# Altium schematic symbol library Logic.SchLib: 6 symbols
Pins are listed as number, name and electrical type; pins without a type are passive.

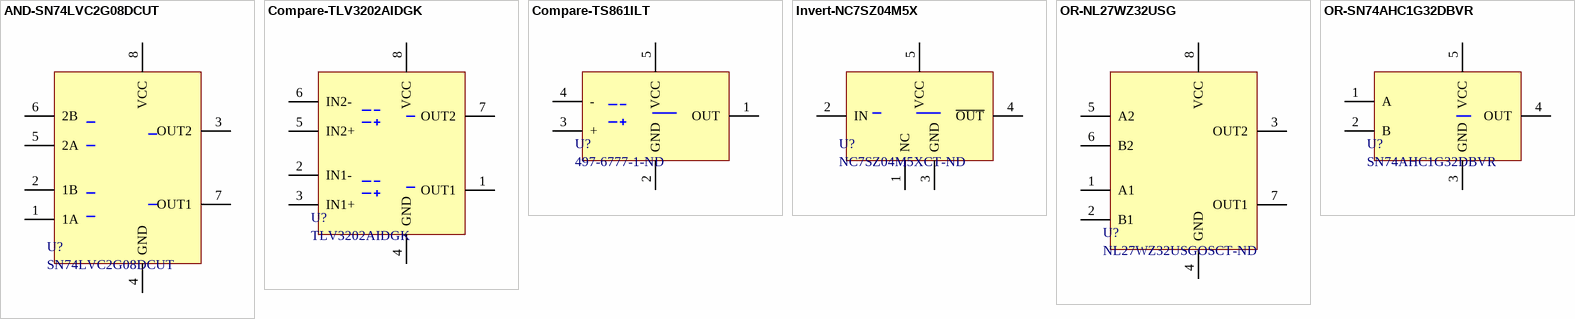
[diagram p0: symbols AND-SN74LVC2G08DCUT to OR-SN74AHC1G32DBVR]

## AND-SN74LVC2G08DCUT
designator U?, comment SN74LVC2G08DCUT
IC GATE AND 2CH 2-INP US8; Manufacturer: Texas Instruments; Output Current: 32mA; Number of Inputs: 2; Min Supply Voltage: 1.65V; Max Supply Voltage: 5.5V; Number of Outputs: 1; Propagation Delay: 3.8ns; Quiescent Current: 10uA; High Level Output Current: -32mA; Supplier 1: Digi-Key; Manufacturer Part Number: SN74LVC2G08DCUT; Stock 1: 1703; Pricing 1: 1=0.86, 10=0.767, 25=0.728, 100=0.598 (USD); Mount: Surface Mount; Case/Package: VSSOP; Number of Pins: 8; Weight: 0.000339oz; Contact Plating: Gold; Min Operating Temperature: -40°C; Max Operating Temperature: 125°C; Max Output Current: 32mA; Packaging: Tape and Reel; Logic Function: AND; Package Quantity: 1; Number of Gates: 2; Number of Input Lines: 2; Number of Output Lines: 1; Low Level Output Current: 32mA; Number of Circuits: 2; Number of Elements: 2; Turn-On Delay Time: 3.8ns; Termination: SMD/SMT; Number of Bits: 2; Radiation Hardening: No; REACH SVHC: No SVHC; Lead Free: Lead Free; ComponentLink1URL: http://focus.ti.com/lit/ds/symlink/sn74lvc2g08.pdf?src-supplier=Element14; ComponentLink1Description: http://focus.ti.com/lit/ds/symlink/sn74lvc2g08.pdf?src-supplier=Element14; ComponentLink2URL: http://focus.ti.com/lit/ds/symlink/sn74lvc2g08.pdf?src-supplier=Avnet; ComponentLink2Description: http://focus.ti.com/lit/ds/symlink/sn74lvc2g08.pdf?src-supplier=Avnet; ComponentLink3URL: http://www.ti.com/general/docs/lit/getliterature.tsp?genericPartNumber=SN74LVC2G08&&fileType=pdf&src-supplier=Avnet; ComponentLink3Description: http://www.ti.com/general/docs/lit/getliterature.tsp?genericPartNumber=SN74LVC2G08&&fileType=pdf&src-supplier=Avnet; ComponentLink4URL: https://www.verical.com/server-webapp/html/getDatasheet?partID=48823&src-supplier=Verical; ComponentLink4Description: https://www.verical.com/server-webapp/html/getDatasheet?partID=48823&src-supplier=Verical; ComponentLink5URL: http://www.farnell.com/datasheets/1834894.pdf?src-supplier=Element14; ComponentLink5Description: http://www.farnell.com/datasheets/1834894.pdf?src-supplier=Element14; ComponentLink6URL: http://www.ti.com/lit/ds/symlink/sn74lvc2g08.pdf?src-supplier=Digi-Key; ComponentLink6Description: http://www.ti.com/lit/ds/symlink/sn74lvc2g08.pdf?src-supplier=Digi-Key; ComponentLink7URL: http://www.produktinfo.conrad.com/datenblaetter/1000000-1099999/001017175-da-01-en-IC_DU_2IN_PO_SN74LVC2G08DCUT_VSSOP_8_TID.pdf?src-supplier=Conrad; ComponentLink7Description: http://www.produktinfo.conrad.com/datenblaetter/1000000-1099999/001017175-da-01-en-IC_DU_2IN_PO_SN74LVC2G08DCUT_VSSOP_8_TID.pdf?src-supplier=Conrad; Supplier Part Number 1: 296-26615-1-ND
footprint 8VSSOP (TSSOP, 8-Leads, Body 2.00x2.30mm, Pitch 0.50mm, IPC Medium Density)
pins: 1 1A, 2 1B, 3 OUT2, 4 GND, 5 2A, 6 2B, 7 OUT1, 8 VCC

## Compare-TLV3202AIDGK
designator U?, comment TLV3202AIDGK
IC COMPAR PWR RRI DL PP 8VSSOP; Manufacturer: Texas Instruments; Number of Elements: 2; Propagation Delay: 50ns; Min Supply Voltage: 2.7V; Max Supply Voltage: 5.5V; Common Mode Rejection Ratio: 70dB; Nominal Supply Current: 50uA; Max Supply Current: 40uA; Input Bias Current: 50pA; Input Offset Voltage (Vos): 5mV; Response Time: 0.047us; Hysteresis: 1.2mV; Power Supply Rejection Ratio (PSRR): 85dB; Manufacturer Part Number: TLV3202AIDGK; Stock 1: 6035; Pricing 1: 1=1.77, 10=1.59, 25=1.5, 100=1.2, 250=1.05, 500=1.02, 1000=0.81, 2500=0.78, 5000=0.75 (USD); Mount: Surface Mount; Case/Package: VSSOP; Number of Pins: 8; Min Operating Temperature: -40°C; Max Operating Temperature: 125°C; Packaging: Rail/Tube; Package Quantity: 80; Number of Channels: 2; Max Input Current: 50pA; Quiescent Current: 50uA; Type: General Purpose; Length: 3.1mm; Height: 0.95mm; Width: 3.1mm; Radiation Hardening: No; REACH SVHC: No SVHC; Lead Free: Lead Free; ComponentLink1URL: http://www.ti.com/lit/gpn/tlv3202?src-supplier=Mouser; ComponentLink1Description: http://www.ti.com/lit/gpn/tlv3202?src-supplier=Mouser; ComponentLink2URL: http://www.farnell.com/datasheets/1882110.pdf?src-supplier=Element14; ComponentLink2Description: http://www.farnell.com/datasheets/1882110.pdf?src-supplier=Element14; Supplier Part Number 1: 296-34992-ND; Supplier 1: Digi-Key
pins: 1 OUT1, 2 IN1-, 3 IN1+, 4 GND, 5 IN2+, 6 IN2-, 7 OUT2, 8 VCC

## Compare-TS861ILT
designator U?, comment 497-6777-1-ND
IC COMPARATOR R-R MCRPWR SOT23-5; Manufacturer: STMicroelectronics; Manufacturer Part Number: TS861ILT; Voltage Gain: 240dB; Min Supply Voltage: 2.7V; Max Supply Voltage: 10V; Number of Channels: 1; Max Power Dissipation: 500mW; Nominal Supply Current: 14uA; Common Mode Rejection Ratio: 70dB; Input Offset Voltage (Vos): 15mV; Input Bias Current: 300pA; Quiescent Current: 16uA; Propagation Delay: 2us; Max Supply Current: 12uA; Output Current per Channel: 5mA; Response Time: 500ns; Power Supply Rejection Ratio (PSRR): 80dB; Supplier 1: Digi-Key; Stock 1: 14868; Pricing 1: 1=0.78, 10=0.682, 25=0.6412, 100=0.486, 250=0.4136, 500=0.39292, 1000=0.29986 (USD); Mount: Surface Mount; Case/Package: SOT-23; Number of Pins: 5; Min Operating Temperature: -40°C; Max Operating Temperature: 85°C; Package Quantity: 3000; Number of Elements: 1; Packaging: Tape and Reel; Max Input Current: 300pA; Power Dissipation: 500mW; Output Current: 5mA; Type: General Purpose; Radiation Hardening: No; REACH SVHC: No SVHC; Lead Free: Lead Free; ComponentLink1URL: http://www.farnell.com/datasheets/1690531.pdf?src-supplier=Element14; ComponentLink1Description: http://www.farnell.com/datasheets/1690531.pdf?src-supplier=Element14; ComponentLink2URL: http://www.st.com/content/ccc/resource/technical/document/datasheet/dd/d1/7d/d5/d5/ce/49/c5/CD00001705.pdf/files/CD00001705.pdf/jcr:content/translations/en.CD00001705.pdf?src-supplier=Digi-Key; ComponentLink2Description: http://www.st.com/content/ccc/resource/technical/document/datasheet/dd/d1/7d/d5/d5/ce/49/c5/CD00001705.pdf/files/CD00001705.pdf/jcr:content/translations/en.CD00001705.pdf?src-supplier=Digi-Key; ComponentLink3URL: http://www.mouser.com/ds/2/389/ts861-957384.pdf?src-supplier=Mouser; ComponentLink3Description: http://www.mouser.com/ds/2/389/ts861-957384.pdf?src-supplier=Mouser; ComponentLink4URL: https://www.verical.com/server-webapp/html/getDatasheet?partID=160028&src-supplier=Verical; ComponentLink4Description: https://www.verical.com/server-webapp/html/getDatasheet?partID=160028&src-supplier=Verical; ComponentLink5URL: http://www.produktinfo.conrad.com/datenblaetter/1100000-1199999/001185659-da-01-en-IC_COMPARATOR_R_R_TS861ILT_SOT_23_5_STM.pdf?src-supplier=Conrad; ComponentLink5Description: http://www.produktinfo.conrad.com/datenblaetter/1100000-1199999/001185659-da-01-en-IC_COMPARATOR_R_R_TS861ILT_SOT_23_5_STM.pdf?src-supplier=Conrad; Supplier Part Number 1: 497-6777-6-ND
footprint SOT-23-5 (SOT23, 5-Leads, Body 3.00x2.75mm, Pitch 0.95mm, IPC Medium Density)
pins: 1 OUT, 2 GND, 3 +, 4 -, 5 VCC

## Invert-NC7SZ04M5X
designator U?, comment NC7SZ04M5XCT-ND
IC INVERTER 1CH 1-INP SOT23-5; Manufacturer: ON Semiconductor / Fairchild; Propagation Delay: 12ns; Max Supply Voltage: 5.5V; Min Supply Voltage: 1.65V; Number of Inputs: 1; Output Current: 32mA; Logic Function: Buffer,Inverter; Quiescent Current: 2uA; High Level Output Current: -32mA; Supplier 1: Digi-Key; Manufacturer Part Number: NC7SZ04M5X; Stock 1: 104504; Pricing 1: 1=0.47, 10=0.348, 25=0.3044, 100=0.1971, 250=0.16312, 500=0.1305, 1000=0.10005 (USD); Mount: Surface Mount; Case/Package: SOT-23; Number of Pins: 5; Weight: 0.03g; Contact Plating: Tin,Matte; Min Operating Temperature: -40°C; Max Operating Temperature: 85°C; Packaging: Tape and Reel; Package Quantity: 1; Number of Elements: 1; Number of Circuits: 1; Low Level Output Current: 32mA; Turn-On Delay Time: 12ns; Radiation Hardening: No; REACH SVHC: No SVHC; Lead Free: Lead Free; ComponentLink1URL: http://www.jameco.com/Jameco/Products/ProdDS/1015511.pdf?src-supplier=Jameco; ComponentLink1Description: http://www.jameco.com/Jameco/Products/ProdDS/1015511.pdf?src-supplier=Jameco; ComponentLink2URL: https://www.fairchildsemi.com/datasheets/NC/NC7SZ04.pdf?src-supplier=Digi-Key; ComponentLink2Description: https://www.fairchildsemi.com/datasheets/NC/NC7SZ04.pdf?src-supplier=Digi-Key; ComponentLink3URL: http://www.farnell.com/datasheets/1639856.pdf?src-supplier=Element14; ComponentLink3Description: http://www.farnell.com/datasheets/1639856.pdf?src-supplier=Element14; ComponentLink4URL: http://www.fairchildsemi.com/ds/NC/NC7SZ04.pdf?src-supplier=Avnet+Europe; ComponentLink4Description: http://www.fairchildsemi.com/ds/NC/NC7SZ04.pdf?src-supplier=Avnet+Europe; ComponentLink5URL: https://www.verical.com/server-webapp/html/getDatasheet?partID=120911&src-supplier=Verical; ComponentLink5Description: https://www.verical.com/server-webapp/html/getDatasheet?partID=120911&src-supplier=Verical; ComponentLink6URL: https://www.fairchildsemi.com/datasheets/NC/NC7SZ04.pdf?src-supplier=Avnet; ComponentLink6Description: https://www.fairchildsemi.com/datasheets/NC/NC7SZ04.pdf?src-supplier=Avnet; ComponentLink7URL: http://www.fairchildsemi.com/ds/NC/NC7SZ04.pdf?src-supplier=Future+Electronics; ComponentLink7Description: http://www.fairchildsemi.com/ds/NC/NC7SZ04.pdf?src-supplier=Future+Electronics; Supplier Part Number 1: NC7SZ04M5XDKR-ND
footprint SOT-23-5 (SOT23, 5-Leads, Body 3.00x2.75mm, Pitch 0.95mm, IPC Medium Density)
pins: 1 NC, 2 IN, 3 GND, 4 ~{OUT}, 5 VCC

## OR-NL27WZ32USG
designator U?, comment NL27WZ32USGOSCT-ND
IC GATE OR 2CH 2-INP US8; Manufacturer: ON Semiconductor; Number of Gates: 2; Propagation Delay: 6.2ns; Max Supply Voltage: 5.5V; Min Supply Voltage: 1.65V; Number of Outputs: 1; Operating Supply Voltage: 3.25V; Output Current: 50mA; Low Level Output Current: 32mA; Quiescent Current: 1uA; High Level Output Current: -32mA; Turn-On Delay Time: 5.2ns; Schmitt Trigger Input: No; Supplier 1: Digi-Key; Manufacturer Part Number: NL27WZ32USG; Stock 1: 5621; Pricing 1: 1=0.39, 10=0.317, 25=0.29, 100=0.2157, 250=0.19548, 500=0.16176, 1000=0.12132 (USD); Mount: Surface Mount; Number of Pins: 8; Contact Plating: Tin,Matte; Min Operating Temperature: -40°C; Max Operating Temperature: 85°C; Packaging: Tape and Reel; Package Quantity: 1; Number of Inputs: 2; Logic Function: OR; Number of Circuits: 2; Number of Elements: 2; Length: 2.4mm; Height: 0.8mm; Width: 2.1mm; Radiation Hardening: No; REACH SVHC: No SVHC; Lead Free: Lead Free; Halogen Free: Halogen Free; ComponentLink1URL: http://www.mouser.com/ds/2/308/NL27WZ32-D-114831.pdf?src-supplier=Mouser; ComponentLink1Description: http://www.mouser.com/ds/2/308/NL27WZ32-D-114831.pdf?src-supplier=Mouser; ComponentLink2URL: http://www.onsemi.com/pub/Collateral/NL27WZ32-D.PDF?src-supplier=Digi-Key; ComponentLink2Description: http://www.onsemi.com/pub/Collateral/NL27WZ32-D.PDF?src-supplier=Digi-Key; ComponentLink3URL: https://www.verical.com/server-webapp/html/getDatasheet?partID=69948&src-supplier=Verical; ComponentLink3Description: https://www.verical.com/server-webapp/html/getDatasheet?partID=69948&src-supplier=Verical; ComponentLink4URL: http://www.onsemi.com/pub_link/Collateral/NL27WZ32-D.PDF?src-supplier=Future+Electronics; ComponentLink4Description: http://www.onsemi.com/pub_link/Collateral/NL27WZ32-D.PDF?src-supplier=Future+Electronics; ComponentLink5URL: http://www.onsemi.jp/pub/Collateral/NL27WZ32-D.PDF?src-supplier=Avnet+Europe; ComponentLink5Description: http://www.onsemi.jp/pub/Collateral/NL27WZ32-D.PDF?src-supplier=Avnet+Europe; ComponentLink6URL: http://www.onsemi.com/pub/Collateral/NL27WZ32-D.PDF?src-supplier=Avnet; ComponentLink6Description: http://www.onsemi.com/pub/Collateral/NL27WZ32-D.PDF?src-supplier=Avnet; ComponentLink7URL: http://datasheet.iiic.cc/on_semiconductor/NL27WZ32USG.pdf?src-supplier=IIIC; ComponentLink7Description: http://datasheet.iiic.cc/on_semiconductor/NL27WZ32USG.pdf?src-supplier=IIIC; Supplier Part Number 1: NL27WZ32USGOSDKR-ND
footprint US8 (TSSOP, 8-Leads, Body 2.00x2.30mm, Pitch 0.50mm, IPC Medium Density)
pins: 1 A1, 2 B1, 3 OUT2, 4 GND, 5 A2, 6 B2, 7 OUT1, 8 VCC

## OR-SN74AHC1G32DBVR
designator U?, comment SN74AHC1G32DBVR
IC GATE OR 1CH 2-INP SOT23-5; Manufacturer: Texas Instruments; Output Current: 8mA; Number of Inputs: 2; Min Supply Voltage: 2V; Max Supply Voltage: 5.5V; Number of Gates: 1; Propagation Delay: 7.5ns; Quiescent Current: 1uA; High Level Output Current: -8mA; Turn-On Delay Time: 11.4ns; Schmitt Trigger Input: No; Supplier 1: Digi-Key; Manufacturer Part Number: SN74AHC1G32DBVR; Stock 1: 16802; Pricing 1: 1=0.32, 10=0.258, 25=0.216, 100=0.1368, 250=0.1056, 500=0.09, 1000=0.0612 (USD); Mount: Surface Mount; Case/Package: SOT-23; Number of Pins: 5; Weight: 0.000557oz; Contact Plating: Tin,Matte; Min Operating Temperature: -40°C; Max Operating Temperature: 125°C; Max Output Current: 8mA; Package Quantity: 1; Packaging: Tape and Reel; Number of Outputs: 1; Logic Function: OR; Number of Elements: 1; Number of Circuits: 1; Low Level Output Current: 8mA; Number of Input Lines: 2; Number of Output Lines: 1; Termination: SMD/SMT; Number of Bits: 1; Length: 2.9mm; Height: 1.15mm; Width: 1.6mm; Radiation Hardening: No; REACH SVHC: No SVHC; Lead Free: Lead Free; ComponentLink1URL: http://www.ti.com/lit/ds/symlink/sn74ahc1g32.pdf?src-supplier=Digi-Key; ComponentLink1Description: http://www.ti.com/lit/ds/symlink/sn74ahc1g32.pdf?src-supplier=Digi-Key; ComponentLink2URL: http://www.jameco.com/Jameco/Products/ProdDS/913109.pdf?src-supplier=Jameco; ComponentLink2Description: http://www.jameco.com/Jameco/Products/ProdDS/913109.pdf?src-supplier=Jameco; ComponentLink3URL: http://www.ti.com/general/docs/lit/getliterature.tsp?genericPartNumber=SN74AHC1G32&&fileType=pdf&src-supplier=Avnet; ComponentLink3Description: http://www.ti.com/general/docs/lit/getliterature.tsp?genericPartNumber=SN74AHC1G32&&fileType=pdf&src-supplier=Avnet; ComponentLink4URL: https://www.verical.com/server-webapp/html/getDatasheet?partID=44427&src-supplier=Verical; ComponentLink4Description: https://www.verical.com/server-webapp/html/getDatasheet?partID=44427&src-supplier=Verical; ComponentLink5URL: http://www.farnell.com/datasheets/2024275.pdf?src-supplier=Element14; ComponentLink5Description: http://www.farnell.com/datasheets/2024275.pdf?src-supplier=Element14; ComponentLink6URL: http://components.arrow.com/part/dataview/947669S7585648N7713?src-supplier=Arrow; ComponentLink6Description: http://components.arrow.com/part/dataview/947669S7585648N7713?src-supplier=Arrow; ComponentLink7URL: http://focus.ti.com/lit/ds/symlink/sn74ahc1g32.pdf?src-supplier=Avnet+Europe; ComponentLink7Description: http://focus.ti.com/lit/ds/symlink/sn74ahc1g32.pdf?src-supplier=Avnet+Europe; ComponentLink8URL: http://www.farnell.com/datasheets/1767165.pdf?src-supplier=Element14; ComponentLink8Description: http://www.farnell.com/datasheets/1767165.pdf?src-supplier=Element14; Supplier Part Number 1: 296-1093-6-ND
footprint SOT-23-5 (SOT23, 5-Leads, Body 3.00x2.75mm, Pitch 0.95mm, IPC Medium Density)
pins: 1 A, 2 B, 3 GND, 4 OUT, 5 VCC